# EAGLE library part DRV8837 (library STAC)
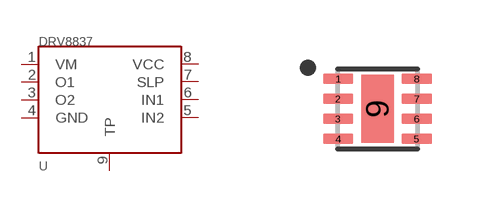
[diagram p18: symbol with the pads of SON50P200X200X75-8N; footprint SON50P200X200X75-8N]

Designator prefix U

## DRV8837  [SON50P200X200X75-8N]
1  VM
2  O1
3  O2
4  GND
5  IN2
6  IN1
7  SLP
8  VCC
9  TP

## Footprint SON50P200X200X75-8N (pad centres in mm)
smd 0.76 x 0.27: 1 -0.985,0.75; 2 -0.985,0.25; 3 -0.985,-0.25; 4 -0.985,-0.75; 5 0.985,-0.75; 6 0.985,-0.25; 7 0.985,0.25; 8 0.985,0.75
smd 0.81 x 1.7: 9 0,0